# Altium schematic symbol library cooler4040.SchLib: 1 symbol
Pins are listed as number, name and electrical type; pins without a type are passive.

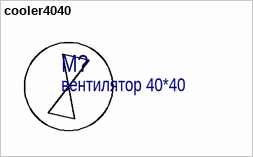
[diagram p0: symbol cooler4040]

## cooler4040
designator M?, comment вентилятор 40*40